# EAGLE library part CMV4000-3E5M1PP (library ICs)
Image Sensors & Color Sensors Area Scan Sensor 4MP Mono
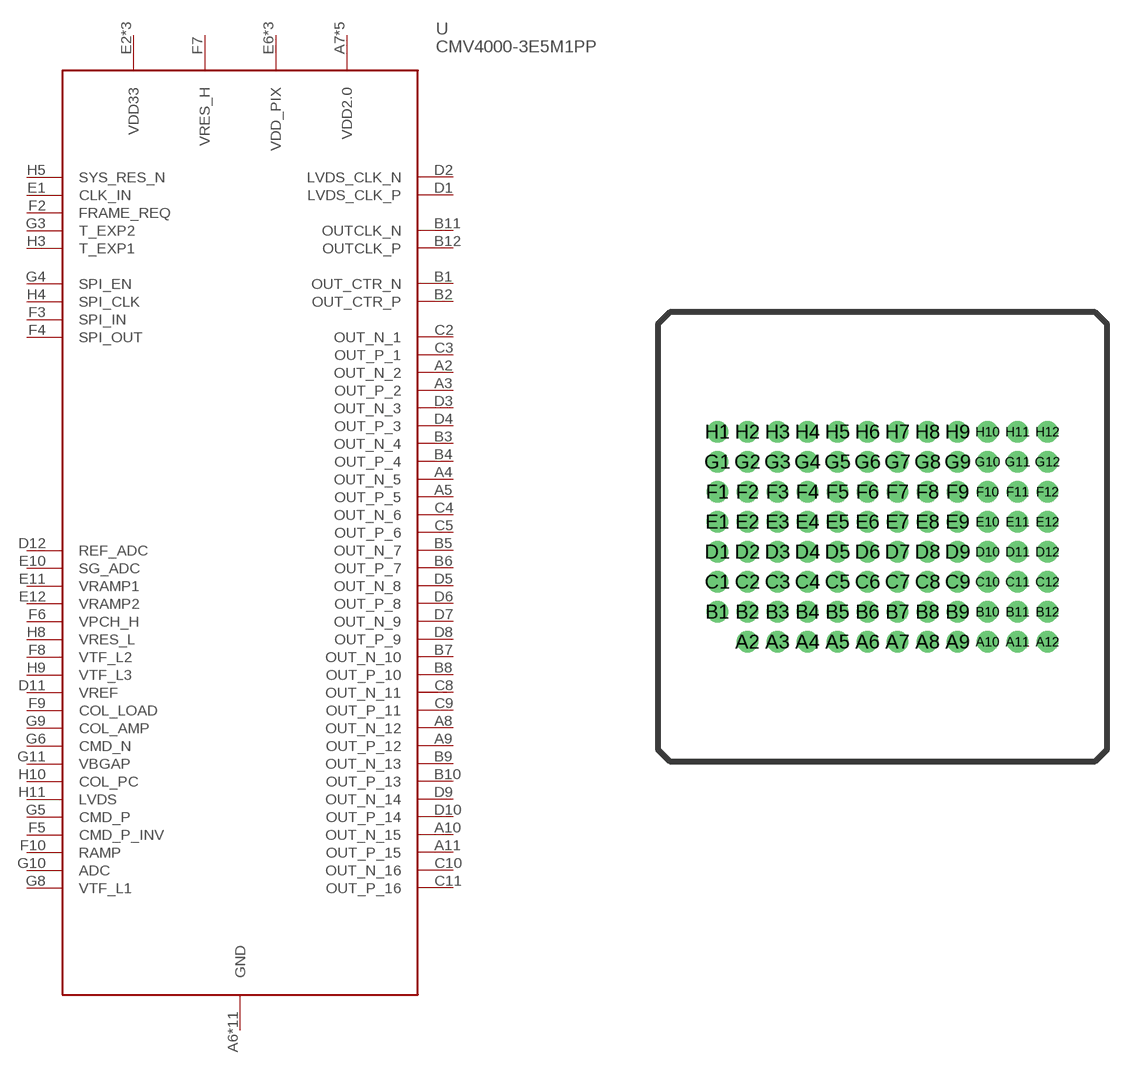
[diagram p104: symbol with the pads of CMV4000-3E5M1PP; footprint CMV4000-3E5M1PP]

Designator prefix U

## CMV4000-3E5M1PP (MOUSER: 469-CMV4000-3E5M1PP; PRICE_PER: 325.22; VALUE: CMV4000)  [CMV4000-3E5M1PP]
A2  OUT_N_2
A3  OUT_P_2
A4  OUT_N_5
A5  OUT_P_5
A6  GND
A7  VDD2.0
A8  OUT_N_12
A9  OUT_P_12
A10  OUT_N_15
A11  OUT_P_15
A12  GND
B1  OUT_CTR_N
B2  OUT_CTR_P
B3  OUT_N_4
B4  OUT_P_4
B5  OUT_N_7
B6  OUT_P_7
B7  OUT_N_10
B8  OUT_P_10
B9  OUT_N_13
B10  OUT_P_13
B11  OUTCLK_N
B12  OUTCLK_P
C1  GND
C2  OUT_N_1
C3  OUT_P_1
C4  OUT_N_6
C5  OUT_P_6
C6  GND
C7  VDD2.0
C8  OUT_N_11
C9  OUT_P_11
C10  OUT_N_16
C11  OUT_P_16
C12  GND
D1  LVDS_CLK_P
D2  LVDS_CLK_N
D3  OUT_N_3
D4  OUT_P_3
D5  OUT_N_8
D6  OUT_P_8
D7  OUT_N_9
D8  OUT_P_9
D9  OUT_N_14
D10  OUT_P_14
D11  VREF
D12  REF_ADC
E1  CLK_IN
E2  VDD33
E3  GND
E4  VDD2.0
E5  GND
E6  VDD_PIX
E7  VDD2.0
E8  VDD2.0
E9  GND
E10  SG_ADC
E11  VRAMP1
E12  VRAMP2
F1  GND
F2  FRAME_REQ
F3  SPI_IN
F4  SPI_OUT
F5  CMD_P_INV
F6  VPCH_H
F7  VRES_H
F8  VTF_L2
F9  COL_LOAD
F10  RAMP
F12  GND
G1  VDD_PIX
G3  T_EXP2
G4  SPI_EN
G5  CMD_P
G6  CMD_N
G8  VTF_L1
G9  COL_AMP
G10  ADC
G11  VBGAP
G12  VDD_PIX
H1  VDD33
H3  T_EXP1
H4  SPI_CLK
H5  SYS_RES_N
H6  VDD33
H7  GND
H8  VRES_L
H9  VTF_L3
H10  COL_PC
H11  LVDS

## Footprint CMV4000-3E5M1PP (pad centres in mm)
drill 0.4 pad 0.7: A2 -5.715,-4.445; A3 -4.445,-4.445; A4 -3.175,-4.445; A5 -1.905,-4.445; A6 -0.635,-4.445; A7 0.635,-4.445; A8 1.905,-4.445; A9 3.175,-4.445; A10 4.445,-4.445; A11 5.715,-4.445; A12 6.985,-4.445; B1 -6.985,-3.175; B2 -5.715,-3.175; B3 -4.445,-3.175; B4 -3.175,-3.175; B5 -1.905,-3.175; B6 -0.635,-3.175; B7 0.635,-3.175; B8 1.905,-3.175; B9 3.175,-3.175; B10 4.445,-3.175; B11 5.715,-3.175; B12 6.985,-3.175; C1 -6.985,-1.905; C2 -5.715,-1.905; C3 -4.445,-1.905; C4 -3.175,-1.905; C5 -1.905,-1.905; C6 -0.635,-1.905; C7 0.635,-1.905; C8 1.905,-1.905; C9 3.175,-1.905; C10 4.445,-1.905; C11 5.715,-1.905; C12 6.985,-1.905; D1 -6.985,-0.635; D2 -5.715,-0.635; D3 -4.445,-0.635; D4 -3.175,-0.635; D5 -1.905,-0.635; D6 -0.635,-0.635; D7 0.635,-0.635; D8 1.905,-0.635; D9 3.175,-0.635; D10 4.445,-0.635; D11 5.715,-0.635; D12 6.985,-0.635; E1 -6.985,0.635; E2 -5.715,0.635; E3 -4.445,0.635; E4 -3.175,0.635; E5 -1.905,0.635; E6 -0.635,0.635; E7 0.635,0.635; E8 1.905,0.635; E9 3.175,0.635; E10 4.445,0.635; E11 5.715,0.635; E12 6.985,0.635; F1 -6.985,1.905; F2 -5.715,1.905; F3 -4.445,1.905; F4 -3.175,1.905; F5 -1.905,1.905; F6 -0.635,1.905; F7 0.635,1.905; F8 1.905,1.905; F9 3.175,1.905; F10 4.445,1.905; F11 5.715,1.905; F12 6.985,1.905; G1 -6.985,3.175; G2 -5.715,3.175; G3 -4.445,3.175; G4 -3.175,3.175; G5 -1.905,3.175; G6 -0.635,3.175; G7 0.635,3.175; G8 1.905,3.175; G9 3.175,3.175; G10 4.445,3.175; G11 5.715,3.175; G12 6.985,3.175; H1 -6.985,4.445; H2 -5.715,4.445; H3 -4.445,4.445; H4 -3.175,4.445; H5 -1.905,4.445; H6 -0.635,4.445; H7 0.635,4.445; H8 1.905,4.445; H9 3.175,4.445; H10 4.445,4.445; H11 5.715,4.445; H12 6.985,4.445